# EAGLE library part KLEMME-2_3-BRUECKE (library e-klemmen)
Klemme 3-pol. mit Brückenhinweis
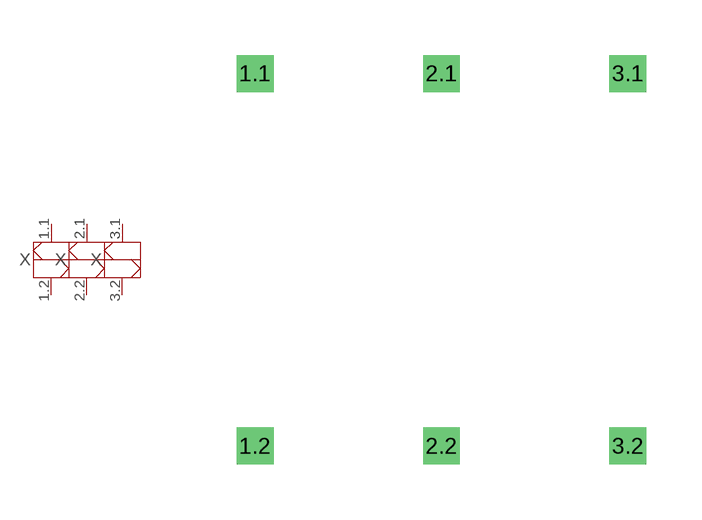
[diagram p93: symbol with the pads of KLEMME-2_3-BRUECKE; footprint KLEMME-2_3-BRUECKE]

Designator prefix X; gates 1=KLEMME-2_1-BRUECKE 2=KLEMME-2_2-BRUECKE 3=KLEMME-2_3-BRUECKE

## KLEMME-2_3-BRUECKE  [KLEMME-2_3-BRUECKE]
1.1  1:1  pas
1.2  1:2  pas
2.1  2:1  pas
2.2  2:2  pas
3.1  3:1  pas
3.2  3:2  pas

## Footprint KLEMME-2_3-BRUECKE (pad centres in mm)
Dummy
drill 0.5 pad 1 square: 1.1 0,5.08; 1.2 0,-5.08; 2.1 5.08,5.08; 2.2 5.08,-5.08; 3.1 10.16,5.08; 3.2 10.16,-5.08